# Altium integrated library ON Semi Transient Voltage Suppressors (TVS).IntLib: 730 symbols (part 11 of 17)
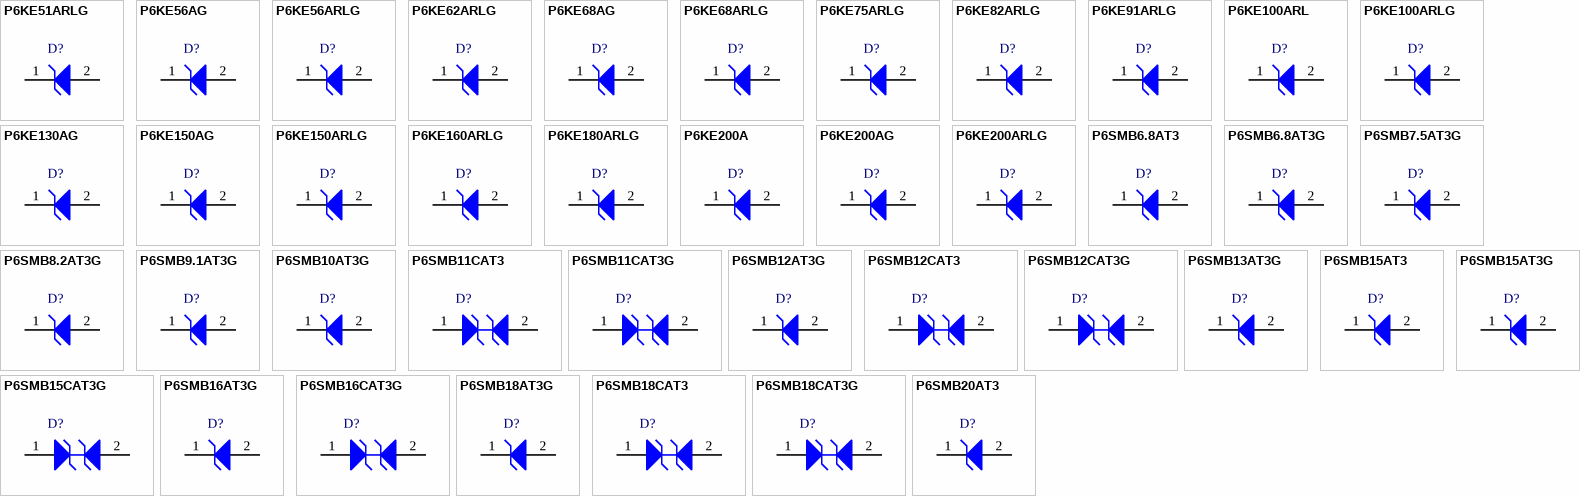
[diagram p28: symbols P6KE51ARLG to P6SMB20AT3]

## P6KE75ARLG
designator D?
600 W Peak Power Transient Voltage Suppressor, 2-Pin Surmetic(TM) 40, Pb-Free, Tape and Reel; Manufacturer: On Semiconductor; PartNumber: P6KE75ARLG; Direction: Unidirectional; IR Max (uA): 5; PPK Max (W): 600; V(BR) Typ (V): 75.05; DatasheetVersion: Rev. 10; PackageVersion: Rev. O, 09/2005; PackageReference: SURMETIC40-2-017AA-01; PackageDescription: 2-Pin, Axial Lead, Diameter 3.49 mm; Supplier 1: Digi-Key; Supplier Part Number 1: P6KE75ARLG-ND; Supplier 2: Mouser; Supplier Part Number 2: 863-P6KE75ARLG; Packing: Tape and Reel; RoHS: Pb-Free; Mounting Technology: Through Hole; ComponentLink1Description: Manufacturer URL; ComponentLink1URL: http://www.onsemi.com/; ComponentLink2Description: Datasheet; ComponentLink2URL: http://www.onsemi.com/pub_link/Collateral/P6KE6.8A-D.PDF; ComponentLink3Description: Package Specification; ComponentLink3URL: http://www.onsemi.cn/pub_link/Collateral/017AA.PDF
footprint ONSC-SURMETIC40-2-017AA-01 (AXIAL, 2-Leads, Diameter 3.49mm)
pins: 1 K, 2 A

## P6KE82ARLG
designator D?
600 W Peak Power Transient Voltage Suppressor, 2-Pin Surmetic(TM) 40, Pb-Free, Tape and Reel; Manufacturer: On Semiconductor; PartNumber: P6KE82ARLG; Direction: Unidirectional; IR Max (uA): 5; PPK Max (W): 600; V(BR) Typ (V): 82; DatasheetVersion: Rev. 10; PackageVersion: Rev. O, 09/2005; PackageReference: SURMETIC40-2-017AA-01; PackageDescription: 2-Pin, Axial Lead, Diameter 3.49 mm; Supplier 1: Digi-Key; Supplier Part Number 1: P6KE82ARLG-ND; Supplier 2: Newark; Supplier Part Number 2: 42K2543; Supplier 3: Mouser; Supplier Part Number 3: 863-P6KE82ARLG; Packing: Tape and Reel; RoHS: Pb-Free; Mounting Technology: Through Hole; ComponentLink1Description: Manufacturer URL; ComponentLink1URL: http://www.onsemi.com/; ComponentLink2Description: Datasheet; ComponentLink2URL: http://www.onsemi.com/pub_link/Collateral/P6KE6.8A-D.PDF; ComponentLink3Description: Package Specification; ComponentLink3URL: http://www.onsemi.cn/pub_link/Collateral/017AA.PDF
footprint ONSC-SURMETIC40-2-017AA-01 (AXIAL, 2-Leads, Diameter 3.49mm)
pins: 1 K, 2 A

## P6KE91ARLG
designator D?
600 W Peak Power Transient Voltage Suppressor, 2-Pin Surmetic(TM) 40, Pb-Free, Tape and Reel; Manufacturer: On Semiconductor; PartNumber: P6KE91ARLG; Direction: Unidirectional; IR Max (uA): 5; PPK Max (W): 600; V(BR) Typ (V): 91; DatasheetVersion: Rev. 10; PackageVersion: Rev. O, 09/2005; PackageReference: SURMETIC40-2-017AA-01; PackageDescription: 2-Pin, Axial Lead, Diameter 3.49 mm; Supplier 1: Digi-Key; Supplier Part Number 1: P6KE91ARLG-ND; Supplier 2: Mouser; Supplier Part Number 2: 863-P6KE91ARLG; Packing: Tape and Reel; RoHS: Pb-Free; Mounting Technology: Through Hole; ComponentLink1Description: Manufacturer URL; ComponentLink1URL: http://www.onsemi.com/; ComponentLink2Description: Datasheet; ComponentLink2URL: http://www.onsemi.com/pub_link/Collateral/P6KE6.8A-D.PDF; ComponentLink3Description: Package Specification; ComponentLink3URL: http://www.onsemi.cn/pub_link/Collateral/017AA.PDF
footprint ONSC-SURMETIC40-2-017AA-01 (AXIAL, 2-Leads, Diameter 3.49mm)
pins: 1 K, 2 A

## P6KE100ARL
designator D?
600 W Peak Power Transient Voltage Suppressor, 2-Pin Surmetic(TM) 40, Tape and Reel; Manufacturer: On Semiconductor; PartNumber: P6KE100ARL; Direction: Unidirectional; IR Max (uA): 5; PPK Max (W): 600; V(BR) Typ (V): 100; DatasheetVersion: Rev. 10; PackageVersion: Rev. O, 09/2005; PackageReference: SURMETIC40-2-017AA-01; PackageDescription: 2-Pin, Axial Lead, Diameter 3.49 mm; Supplier 1: Mouser; Supplier Part Number 1: 863-P6KE100ARL; Packing: Tape and Reel; Mounting Technology: Through Hole; ComponentLink1Description: Manufacturer URL; ComponentLink1URL: http://www.onsemi.com/; ComponentLink2Description: Datasheet; ComponentLink2URL: http://www.onsemi.com/pub_link/Collateral/P6KE6.8A-D.PDF; ComponentLink3Description: Package Specification; ComponentLink3URL: http://www.onsemi.cn/pub_link/Collateral/017AA.PDF
footprint ONSC-SURMETIC40-2-017AA-01 (AXIAL, 2-Leads, Diameter 3.49mm)
pins: 1 K, 2 A

## P6KE100ARLG
designator D?
600 W Peak Power Transient Voltage Suppressor, 2-Pin Surmetic(TM) 40, Pb-Free, Tape and Reel; Manufacturer: On Semiconductor; PartNumber: P6KE100ARLG; Direction: Unidirectional; IR Max (uA): 5; PPK Max (W): 600; V(BR) Typ (V): 100; DatasheetVersion: Rev. 10; PackageVersion: Rev. O, 09/2005; PackageReference: SURMETIC40-2-017AA-01; PackageDescription: 2-Pin, Axial Lead, Diameter 3.49 mm; Supplier 1: Digi-Key; Supplier Part Number 1: P6KE100ARLG-ND; Supplier 2: Mouser; Supplier Part Number 2: 863-P6KE100ARLG; Packing: Tape and Reel; RoHS: Pb-Free; Mounting Technology: Through Hole; ComponentLink1Description: Manufacturer URL; ComponentLink1URL: http://www.onsemi.com/; ComponentLink2Description: Datasheet; ComponentLink2URL: http://www.onsemi.com/pub_link/Collateral/P6KE6.8A-D.PDF; ComponentLink3Description: Package Specification; ComponentLink3URL: http://www.onsemi.cn/pub_link/Collateral/017AA.PDF
footprint ONSC-SURMETIC40-2-017AA-01 (AXIAL, 2-Leads, Diameter 3.49mm)
pins: 1 K, 2 A

## P6KE130AG
designator D?
600 W Peak Power Transient Voltage Suppressor, 2-Pin Surmetic(TM) 40, Pb-Free, Bulk Box; Manufacturer: On Semiconductor; PartNumber: P6KE130AG; Direction: Unidirectional; IR Max (uA): 5; PPK Max (W): 600; V(BR) Typ (V): 130.05; DatasheetVersion: Rev. 10; PackageVersion: Rev. O, 09/2005; PackageReference: SURMETIC40-2-017AA-01; PackageDescription: 2-Pin, Axial Lead, Diameter 3.49 mm; Supplier 1: Digi-Key; Supplier Part Number 1: P6KE130AGOS-ND; Supplier 2: Newark; Supplier Part Number 2: 42K2514; Supplier 3: Mouser; Supplier Part Number 3: 863-P6KE130AG; Packing: Bulk Box; RoHS: Pb-Free; Mounting Technology: Through Hole; ComponentLink1Description: Manufacturer URL; ComponentLink1URL: http://www.onsemi.com/; ComponentLink2Description: Datasheet; ComponentLink2URL: http://www.onsemi.com/pub_link/Collateral/P6KE6.8A-D.PDF; ComponentLink3Description: Package Specification; ComponentLink3URL: http://www.onsemi.cn/pub_link/Collateral/017AA.PDF
footprint ONSC-SURMETIC40-2-017AA-01 (AXIAL, 2-Leads, Diameter 3.49mm)
pins: 1 K, 2 A

## P6KE150AG
designator D?
600 W Peak Power Transient Voltage Suppressor, 2-Pin Surmetic(TM) 40, Pb-Free, Bulk Box; Manufacturer: On Semiconductor; PartNumber: P6KE150AG; Direction: Unidirectional; IR Max (uA): 5; PPK Max (W): 600; V(BR) Typ (V): 150.05; DatasheetVersion: Rev. 10; PackageVersion: Rev. O, 09/2005; PackageReference: SURMETIC40-2-017AA-01; PackageDescription: 2-Pin, Axial Lead, Diameter 3.49 mm; Supplier 1: Digi-Key; Supplier Part Number 1: P6KE150AG-ND; Supplier 2: Newark; Supplier Part Number 2: 42K2516; Supplier 3: Mouser; Supplier Part Number 3: 863-P6KE150AG; Packing: Bulk Box; RoHS: Pb-Free; Mounting Technology: Through Hole; ComponentLink1Description: Manufacturer URL; ComponentLink1URL: http://www.onsemi.com/; ComponentLink2Description: Datasheet; ComponentLink2URL: http://www.onsemi.com/pub_link/Collateral/P6KE6.8A-D.PDF; ComponentLink3Description: Package Specification; ComponentLink3URL: http://www.onsemi.cn/pub_link/Collateral/017AA.PDF
footprint ONSC-SURMETIC40-2-017AA-01 (AXIAL, 2-Leads, Diameter 3.49mm)
pins: 1 K, 2 A

## P6KE150ARLG
designator D?
600 W Peak Power Transient Voltage Suppressor, 2-Pin Surmetic(TM) 40, Pb-Free, Tape and Reel; Manufacturer: On Semiconductor; PartNumber: P6KE150ARLG; Direction: Unidirectional; IR Max (uA): 5; PPK Max (W): 600; V(BR) Typ (V): 150.05; DatasheetVersion: Rev. 10; PackageVersion: Rev. O, 09/2005; PackageReference: SURMETIC40-2-017AA-01; PackageDescription: 2-Pin, Axial Lead, Diameter 3.49 mm; Supplier 1: Digi-Key; Supplier Part Number 1: P6KE150ARLG-ND; Supplier 2: Mouser; Supplier Part Number 2: 863-P6KE150ARLG; Packing: Tape and Reel; RoHS: Pb-Free; Mounting Technology: Through Hole; ComponentLink1Description: Manufacturer URL; ComponentLink1URL: http://www.onsemi.com/; ComponentLink2Description: Datasheet; ComponentLink2URL: http://www.onsemi.com/pub_link/Collateral/P6KE6.8A-D.PDF; ComponentLink3Description: Package Specification; ComponentLink3URL: http://www.onsemi.cn/pub_link/Collateral/017AA.PDF
footprint ONSC-SURMETIC40-2-017AA-01 (AXIAL, 2-Leads, Diameter 3.49mm)
pins: 1 K, 2 A

## P6KE160ARLG
designator D?
600 W Peak Power Transient Voltage Suppressor, 2-Pin Surmetic(TM) 40, Pb-Free, Tape and Reel; Manufacturer: On Semiconductor; PartNumber: P6KE160ARLG; Direction: Unidirectional; IR Max (uA): 5; PPK Max (W): 600; V(BR) Typ (V): 160; DatasheetVersion: Rev. 10; PackageVersion: Rev. O, 09/2005; PackageReference: SURMETIC40-2-017AA-01; PackageDescription: 2-Pin, Axial Lead, Diameter 3.49 mm; Supplier 1: Digi-Key; Supplier Part Number 1: P6KE160ARLG-ND; Supplier 2: Newark; Supplier Part Number 2: 42K2518; Supplier 3: Mouser; Supplier Part Number 3: 863-P6KE160ARLG; Packing: Tape and Reel; RoHS: Pb-Free; Mounting Technology: Through Hole; ComponentLink1Description: Manufacturer URL; ComponentLink1URL: http://www.onsemi.com/; ComponentLink2Description: Datasheet; ComponentLink2URL: http://www.onsemi.com/pub_link/Collateral/P6KE6.8A-D.PDF; ComponentLink3Description: Package Specification; ComponentLink3URL: http://www.onsemi.cn/pub_link/Collateral/017AA.PDF
footprint ONSC-SURMETIC40-2-017AA-01 (AXIAL, 2-Leads, Diameter 3.49mm)
pins: 1 K, 2 A

## P6KE180ARLG
designator D?
600 W Peak Power Transient Voltage Suppressor, 2-Pin Surmetic(TM) 40, Pb-Free, Tape and Reel; Manufacturer: On Semiconductor; PartNumber: P6KE180ARLG; Direction: Unidirectional; IR Max (uA): 5; PPK Max (W): 600; V(BR) Typ (V): 180; DatasheetVersion: Rev. 10; PackageVersion: Rev. O, 09/2005; PackageReference: SURMETIC40-2-017AA-01; PackageDescription: 2-Pin, Axial Lead, Diameter 3.49 mm; Supplier 1: Digi-Key; Supplier Part Number 1: P6KE180ARLGOSTR-ND; Supplier 2: Digi-Key; Supplier Part Number 2: P6KE180ARLGOSCT-ND; Supplier 3: Newark; Supplier Part Number 3: 42K2521; Supplier 4: Mouser; Supplier Part Number 4: 863-P6KE180ARLG; Packing: Tape and Reel; RoHS: Pb-Free; Mounting Technology: Through Hole; ComponentLink1Description: Manufacturer URL; ComponentLink1URL: http://www.onsemi.com/; ComponentLink2Description: Datasheet; ComponentLink2URL: http://www.onsemi.com/pub_link/Collateral/P6KE6.8A-D.PDF; ComponentLink3Description: Package Specification; ComponentLink3URL: http://www.onsemi.cn/pub_link/Collateral/017AA.PDF
footprint ONSC-SURMETIC40-2-017AA-01 (AXIAL, 2-Leads, Diameter 3.49mm)
pins: 1 K, 2 A

## P6KE200A
designator D?
600 W Peak Power Transient Voltage Suppressor, 2-Pin Surmetic(TM) 40, Bulk Box; Manufacturer: On Semiconductor; PartNumber: P6KE200A; Direction: Unidirectional; IR Max (uA): 5; PPK Max (W): 600; V(BR) Typ (V): 200; DatasheetVersion: Rev. 10; PackageVersion: Rev. O, 09/2005; PackageReference: SURMETIC40-2-017AA-01; PackageDescription: 2-Pin, Axial Lead, Diameter 3.49 mm; Packing: Bulk Box; Mounting Technology: Through Hole; ComponentLink1Description: Manufacturer URL; ComponentLink1URL: http://www.onsemi.com/; ComponentLink2Description: Datasheet; ComponentLink2URL: http://www.onsemi.com/pub_link/Collateral/P6KE6.8A-D.PDF; ComponentLink3Description: Package Specification; ComponentLink3URL: http://www.onsemi.cn/pub_link/Collateral/017AA.PDF
footprint ONSC-SURMETIC40-2-017AA-01 (AXIAL, 2-Leads, Diameter 3.49mm)
pins: 1 K, 2 A

## P6KE200AG
designator D?
600 W Peak Power Transient Voltage Suppressor, 2-Pin Surmetic(TM) 40, Pb-Free, Bulk Box; Manufacturer: On Semiconductor; PartNumber: P6KE200AG; Direction: Unidirectional; IR Max (uA): 5; PPK Max (W): 600; V(BR) Typ (V): 200; DatasheetVersion: Rev. 10; PackageVersion: Rev. O, 09/2005; PackageReference: SURMETIC40-2-017AA-01; PackageDescription: 2-Pin, Axial Lead, Diameter 3.49 mm; Supplier 1: Digi-Key; Supplier Part Number 1: P6KE200AGOS-ND; Supplier 2: Farnell; Supplier Part Number 2: 1231727; Supplier 3: Newark; Supplier Part Number 3: 42K2523; Supplier 4: Mouser; Supplier Part Number 4: 863-P6KE200AG; Packing: Bulk Box; RoHS: Pb-Free; Mounting Technology: Through Hole; ComponentLink1Description: Manufacturer URL; ComponentLink1URL: http://www.onsemi.com/; ComponentLink2Description: Datasheet; ComponentLink2URL: http://www.onsemi.com/pub_link/Collateral/P6KE6.8A-D.PDF; ComponentLink3Description: Package Specification; ComponentLink3URL: http://www.onsemi.cn/pub_link/Collateral/017AA.PDF
footprint ONSC-SURMETIC40-2-017AA-01 (AXIAL, 2-Leads, Diameter 3.49mm)
pins: 1 K, 2 A

## P6KE200ARLG
designator D?
600 W Peak Power Transient Voltage Suppressor, 2-Pin Surmetic(TM) 40, Pb-Free, Tape and Reel; Manufacturer: On Semiconductor; PartNumber: P6KE200ARLG; Direction: Unidirectional; IR Max (uA): 5; PPK Max (W): 600; V(BR) Typ (V): 200; DatasheetVersion: Rev. 10; PackageVersion: Rev. O, 09/2005; PackageReference: SURMETIC40-2-017AA-01; PackageDescription: 2-Pin, Axial Lead, Diameter 3.49 mm; Supplier 1: Digi-Key; Supplier Part Number 1: P6KE200ARLGOSTR-ND; Supplier 2: Digi-Key; Supplier Part Number 2: P6KE200ARLGOSCT-ND; Supplier 3: Farnell; Supplier Part Number 3: 1887111; Supplier 4: Newark; Supplier Part Number 4: 09R9683; Supplier 5: Mouser; Supplier Part Number 5: 863-P6KE200ARLG; Packing: Tape and Reel; RoHS: Pb-Free; Mounting Technology: Through Hole; ComponentLink1Description: Manufacturer URL; ComponentLink1URL: http://www.onsemi.com/; ComponentLink2Description: Datasheet; ComponentLink2URL: http://www.onsemi.com/pub_link/Collateral/P6KE6.8A-D.PDF; ComponentLink3Description: Package Specification; ComponentLink3URL: http://www.onsemi.cn/pub_link/Collateral/017AA.PDF
footprint ONSC-SURMETIC40-2-017AA-01 (AXIAL, 2-Leads, Diameter 3.49mm)
pins: 1 K, 2 A

## P6SMB6.8AT3
designator D?
600 W Peak Power Zener Transient Voltage Suppressor, Unidirectional, 2-Pin SMB, Tape and Reel; Manufacturer: On Semiconductor; PartNumber: P6SMB6.8AT3; IR Max (uA): 1000; PPK Max (W): 600; V(BR) Typ (V): 6.8; DatasheetVersion: Rev. J; PackageVersion: Rev. J, 07/2012; PackageReference: SMB-2-403A-03_J; PackageDescription: 2-Pin Small Molded Package, J-Bend Lead, Body 4.33 x 3.625 mm; Supplier 1: Digi-Key; Supplier Part Number 1: P6SMB6.8AT3OSCT-ND; Supplier 2: Digi-Key; Supplier Part Number 2: P6SMB6.8AT3OSDKR-ND; Direction: Unidirectional; Packing: Tape and Reel; Mounting Technology: Surface Mount; ComponentLink1Description: Manufacturer URL; ComponentLink1URL: http://www.onsemi.com/; ComponentLink2Description: Datasheet; ComponentLink2URL: http://www.onsemi.com/pub_link/Collateral/P6SMB6.8AT3-D.PDF; ComponentLink3Description: Package Specification; ComponentLink3URL: http://www.onsemi.com/pub_link/Collateral/P6SMB6.8AT3-D.PDF
footprint ONSC-SMB-2-403A-03_J_V (Molded, 2-Leads, Body 4.6x3.95mm)
pins: 1 K, 2 A

## P6SMB6.8AT3G
designator D?
600 W Peak Power Zener Transient Voltage Suppressor, Unidirectional, 2-Pin SMB, Pb-Free, Tape and Reel; Manufacturer: On Semiconductor; PartNumber: P6SMB6.8AT3G; IR Max (uA): 1000; PPK Max (W): 600; V(BR) Typ (V): 6.8; DatasheetVersion: Rev. J; PackageVersion: Rev. J, 07/2012; PackageReference: SMB-2-403A-03_J; PackageDescription: 2-Pin Small Molded Package, J-Bend Lead, Body 4.33 x 3.625 mm; Supplier 1: Digi-Key; Supplier Part Number 1: P6SMB6.8AT3GOSTR-ND; Supplier 2: Digi-Key; Supplier Part Number 2: P6SMB6.8AT3GOSCT-ND; Supplier 3: Digi-Key; Supplier Part Number 3: P6SMB6.8AT3GOSDKR-ND; Supplier 4: Farnell; Supplier Part Number 4: 1459166; Supplier 5: Farnell; Supplier Part Number 5: 1459166RL; Supplier 6: Farnell; Supplier Part Number 6: 2370847; Supplier 7: Newark; Supplier Part Number 7: 45J2235; Supplier 8: Newark; Supplier Part Number 8: 67R1398; Supplier 9: Mouser; Supplier Part Number 9: 863-P6SMB6.8AT3G; Direction: Unidirectional; Packing: Tape and Reel; RoHS: Pb-Free; Mounting Technology: Surface Mount; ComponentLink1Description: Manufacturer URL; ComponentLink1URL: http://www.onsemi.com/; ComponentLink2Description: Datasheet; ComponentLink2URL: http://www.onsemi.com/pub_link/Collateral/P6SMB6.8AT3-D.PDF; ComponentLink3Description: Package Specification; ComponentLink3URL: http://www.onsemi.com/pub_link/Collateral/P6SMB6.8AT3-D.PDF
footprint ONSC-SMB-2-403A-03_J_V (Molded, 2-Leads, Body 4.6x3.95mm)
pins: 1 K, 2 A

## P6SMB7.5AT3G
designator D?
600 W Peak Power Zener Transient Voltage Suppressor, Unidirectional, 2-Pin SMB, Pb-Free, Tape and Reel; Manufacturer: On Semiconductor; PartNumber: P6SMB7.5AT3G; IR Max (uA): 500; PPK Max (W): 600; V(BR) Typ (V): 7.51; DatasheetVersion: Rev. J; PackageVersion: Rev. J, 07/2012; PackageReference: SMB-2-403A-03_J; PackageDescription: 2-Pin Small Molded Package, J-Bend Lead, Body 4.33 x 3.625 mm; Supplier 1: Digi-Key; Supplier Part Number 1: P6SMB7.5AT3GOSTR-ND; Supplier 2: Digi-Key; Supplier Part Number 2: P6SMB7.5AT3GOSCT-ND; Supplier 3: Digi-Key; Supplier Part Number 3: P6SMB7.5AT3GOSDKR-ND; Supplier 4: Newark; Supplier Part Number 4: 26K5170; Supplier 5: Mouser; Supplier Part Number 5: 863-P6SMB7.5AT3G; Direction: Unidirectional; Packing: Tape and Reel; RoHS: Pb-Free; Mounting Technology: Surface Mount; ComponentLink1Description: Manufacturer URL; ComponentLink1URL: http://www.onsemi.com/; ComponentLink2Description: Datasheet; ComponentLink2URL: http://www.onsemi.com/pub_link/Collateral/P6SMB6.8AT3-D.PDF; ComponentLink3Description: Package Specification; ComponentLink3URL: http://www.onsemi.com/pub_link/Collateral/P6SMB6.8AT3-D.PDF
footprint ONSC-SMB-2-403A-03_J_V (Molded, 2-Leads, Body 4.6x3.95mm)
pins: 1 K, 2 A

## P6SMB8.2AT3G
designator D?
600 W Peak Power Zener Transient Voltage Suppressor, Unidirectional, 2-Pin SMB, Pb-Free, Tape and Reel; Manufacturer: On Semiconductor; PartNumber: P6SMB8.2AT3G; IR Max (uA): 200; PPK Max (W): 600; V(BR) Typ (V): 8.2; DatasheetVersion: Rev. J; PackageVersion: Rev. J, 07/2012; PackageReference: SMB-2-403A-03_J; PackageDescription: 2-Pin Small Molded Package, J-Bend Lead, Body 4.33 x 3.625 mm; Supplier 1: Digi-Key; Supplier Part Number 1: P6SMB8.2AT3G-ND; Supplier 2: Newark; Supplier Part Number 2: 26K5171; Supplier 3: Mouser; Supplier Part Number 3: 863-P6SMB8.2AT3G; Direction: Unidirectional; Packing: Tape and Reel; RoHS: Pb-Free; Mounting Technology: Surface Mount; ComponentLink1Description: Manufacturer URL; ComponentLink1URL: http://www.onsemi.com/; ComponentLink2Description: Datasheet; ComponentLink2URL: http://www.onsemi.com/pub_link/Collateral/P6SMB6.8AT3-D.PDF; ComponentLink3Description: Package Specification; ComponentLink3URL: http://www.onsemi.com/pub_link/Collateral/P6SMB6.8AT3-D.PDF
footprint ONSC-SMB-2-403A-03_J_V (Molded, 2-Leads, Body 4.6x3.95mm)
pins: 1 K, 2 A

## P6SMB9.1AT3G
designator D?
600 W Peak Power Zener Transient Voltage Suppressor, Unidirectional, 2-Pin SMB, Pb-Free, Tape and Reel; Manufacturer: On Semiconductor; PartNumber: P6SMB9.1AT3G; IR Max (uA): 50; PPK Max (W): 600; V(BR) Typ (V): 9.1; DatasheetVersion: Rev. J; PackageVersion: Rev. J, 07/2012; PackageReference: SMB-2-403A-03_J; PackageDescription: 2-Pin Small Molded Package, J-Bend Lead, Body 4.33 x 3.625 mm; Supplier 1: Digi-Key; Supplier Part Number 1: P6SMB9.1AT3G-ND; Supplier 2: Mouser; Supplier Part Number 2: 863-P6SMB9.1AT3G; Direction: Unidirectional; Packing: Tape and Reel; RoHS: Pb-Free; Mounting Technology: Surface Mount; ComponentLink1Description: Manufacturer URL; ComponentLink1URL: http://www.onsemi.com/; ComponentLink2Description: Datasheet; ComponentLink2URL: http://www.onsemi.com/pub_link/Collateral/P6SMB6.8AT3-D.PDF; ComponentLink3Description: Package Specification; ComponentLink3URL: http://www.onsemi.com/pub_link/Collateral/P6SMB6.8AT3-D.PDF
footprint ONSC-SMB-2-403A-03_J_V (Molded, 2-Leads, Body 4.6x3.95mm)
pins: 1 K, 2 A

## P6SMB10AT3G
designator D?
600 W Peak Power Zener Transient Voltage Suppressor, Unidirectional, 2-Pin SMB, Pb-Free, Tape and Reel; Manufacturer: On Semiconductor; PartNumber: P6SMB10AT3G; IR Max (uA): 10; PPK Max (W): 600; DatasheetVersion: Rev. J; PackageVersion: Rev. J, 07/2012; PackageReference: SMB-2-403A-03_J; PackageDescription: 2-Pin Small Molded Package, J-Bend Lead, Body 4.33 x 3.625 mm; Supplier 1: Digi-Key; Supplier Part Number 1: P6SMB10AT3GOSTR-ND; Supplier 2: Digi-Key; Supplier Part Number 2: P6SMB10AT3GOSCT-ND; Supplier 3: Digi-Key; Supplier Part Number 3: P6SMB10AT3GOSDKR-ND; Supplier 4: Newark; Supplier Part Number 4: 26K5151; Supplier 5: Mouser; Supplier Part Number 5: 863-P6SMB10AT3G; Direction: Unidirectional; Packing: Tape and Reel; RoHS: Pb-Free; V(BR) Typ (V): 10; Mounting Technology: Surface Mount; ComponentLink1Description: Manufacturer URL; ComponentLink1URL: http://www.onsemi.com/; ComponentLink2Description: Datasheet; ComponentLink2URL: http://www.onsemi.com/pub_link/Collateral/P6SMB6.8AT3-D.PDF; ComponentLink3Description: Package Specification; ComponentLink3URL: http://www.onsemi.com/pub_link/Collateral/P6SMB6.8AT3-D.PDF
footprint ONSC-SMB-2-403A-03_J_V (Molded, 2-Leads, Body 4.6x3.95mm)
pins: 1 K, 2 A

## P6SMB11CAT3
designator D?
600 W Peak Power Zener Transient Voltage Suppressor, Bidirectional, 2-Pin SMB, Tape and Reel; Manufacturer: On Semiconductor; PartNumber: P6SMB11CAT3; IR Max (uA): 5; PPK Max (W): 600; V(BR) Typ (V): 11.05; DatasheetVersion: Rev. 12; PackageVersion: Rev. H, 05/2011; PackageReference: SMB-2-403A-03_H; PackageDescription: 2-Pin Small Molded Package, J-Bend Lead, Body 4.33 x 3.625 mm; Supplier 1: Digi-Key; Supplier Part Number 1: P6SMB11CAT3OSCT-ND; Supplier 2: Digi-Key; Supplier Part Number 2: P6SMB11CAT3OSDKR-ND; Direction: Bidirectional; Packing: Tape and Reel; Mounting Technology: Surface Mount; ComponentLink1Description: Manufacturer URL; ComponentLink1URL: http://www.onsemi.com/; ComponentLink2Description: Datasheet; ComponentLink2URL: http://www.onsemi.com/pub_link/Collateral/P6SMB11CAT3-D.PDF; ComponentLink3Description: Package Specification; ComponentLink3URL: http://www.onsemi.com/pub_link/Collateral/1SMB5913BT3-D.PDF
footprint ONSC-SMB-2-403A-03_H_V (Molded, 2-Leads, Body 4.6x3.95mm)
pins: 1 A1, 2 A2

## P6SMB11CAT3G
designator D?
600 W Peak Power Zener Transient Voltage Suppressor, Bidirectional, 2-Pin SMB, Pb-Free, Tape and Reel; Manufacturer: On Semiconductor; PartNumber: P6SMB11CAT3G; IR Max (uA): 5; PPK Max (W): 600; V(BR) Typ (V): 11.05; DatasheetVersion: Rev. 12; PackageVersion: Rev. H, 05/2011; PackageReference: SMB-2-403A-03_H; PackageDescription: 2-Pin Small Molded Package, J-Bend Lead, Body 4.33 x 3.625 mm; Supplier 1: Digi-Key; Supplier Part Number 1: P6SMB11CAT3GOSTR-ND; Supplier 2: Digi-Key; Supplier Part Number 2: P6SMB11CAT3GOSCT-ND; Supplier 3: Digi-Key; Supplier Part Number 3: P6SMB11CAT3GOSDKR-ND; Supplier 4: Farnell; Supplier Part Number 4: 1899528; Supplier 5: Newark; Supplier Part Number 5: 09R9691; Supplier 6: Mouser; Supplier Part Number 6: 863-P6SMB11CAT3G; Direction: Bidirectional; Packing: Tape and Reel; RoHS: Pb-Free; Mounting Technology: Surface Mount; ComponentLink1Description: Manufacturer URL; ComponentLink1URL: http://www.onsemi.com/; ComponentLink2Description: Datasheet; ComponentLink2URL: http://www.onsemi.com/pub_link/Collateral/P6SMB11CAT3-D.PDF; ComponentLink3Description: Package Specification; ComponentLink3URL: http://www.onsemi.com/pub_link/Collateral/1SMB5913BT3-D.PDF
footprint ONSC-SMB-2-403A-03_H_V (Molded, 2-Leads, Body 4.6x3.95mm)
pins: 1 A1, 2 A2

## P6SMB12AT3G
designator D?
600 W Peak Power Zener Transient Voltage Suppressor, Unidirectional, 2-Pin SMB, Pb-Free, Tape and Reel; Manufacturer: On Semiconductor; PartNumber: P6SMB12AT3G; IR Max (uA): 5; PPK Max (W): 600; V(BR) Typ (V): 12; DatasheetVersion: Rev. J; PackageVersion: Rev. J, 07/2012; PackageReference: SMB-2-403A-03_J; PackageDescription: 2-Pin Small Molded Package, J-Bend Lead, Body 4.33 x 3.625 mm; Supplier 1: Digi-Key; Supplier Part Number 1: P6SMB12AT3GOSTR-ND; Supplier 2: Digi-Key; Supplier Part Number 2: P6SMB12AT3GOSCT-ND; Supplier 3: Digi-Key; Supplier Part Number 3: P6SMB12AT3GOSDKR-ND; Supplier 4: Farnell; Supplier Part Number 4: 2317491; Supplier 5: Newark; Supplier Part Number 5: 09R9692; Supplier 6: Mouser; Supplier Part Number 6: 863-P6SMB12AT3G; Direction: Unidirectional; Packing: Tape and Reel; RoHS: Pb-Free; Mounting Technology: Surface Mount; ComponentLink1Description: Manufacturer URL; ComponentLink1URL: http://www.onsemi.com/; ComponentLink2Description: Datasheet; ComponentLink2URL: http://www.onsemi.com/pub_link/Collateral/P6SMB6.8AT3-D.PDF; ComponentLink3Description: Package Specification; ComponentLink3URL: http://www.onsemi.com/pub_link/Collateral/P6SMB6.8AT3-D.PDF
footprint ONSC-SMB-2-403A-03_J_V (Molded, 2-Leads, Body 4.6x3.95mm)
pins: 1 K, 2 A

## P6SMB12CAT3
designator D?
600 W Peak Power Zener Transient Voltage Suppressor, Bidirectional, 2-Pin SMB, Tape and Reel; Manufacturer: On Semiconductor; PartNumber: P6SMB12CAT3; IR Max (uA): 5; PPK Max (W): 600; V(BR) Typ (V): 12; DatasheetVersion: Rev. 12; PackageVersion: Rev. H, 05/2011; PackageReference: SMB-2-403A-03_H; PackageDescription: 2-Pin Small Molded Package, J-Bend Lead, Body 4.33 x 3.625 mm; Supplier 1: Digi-Key; Supplier Part Number 1: P6SMB12CAT3OSCT-ND; Supplier 2: Digi-Key; Supplier Part Number 2: P6SMB12CAT3OSDKR-ND; Direction: Bidirectional; Packing: Tape and Reel; Mounting Technology: Surface Mount; ComponentLink1Description: Manufacturer URL; ComponentLink1URL: http://www.onsemi.com/; ComponentLink2Description: Datasheet; ComponentLink2URL: http://www.onsemi.com/pub_link/Collateral/P6SMB11CAT3-D.PDF; ComponentLink3Description: Package Specification; ComponentLink3URL: http://www.onsemi.com/pub_link/Collateral/1SMB5913BT3-D.PDF
footprint ONSC-SMB-2-403A-03_H_V (Molded, 2-Leads, Body 4.6x3.95mm)
pins: 1 A1, 2 A2

## P6SMB12CAT3G
designator D?
600 W Peak Power Zener Transient Voltage Suppressor, Bidirectional, 2-Pin SMB, Pb-Free, Tape and Reel; Manufacturer: On Semiconductor; PartNumber: P6SMB12CAT3G; IR Max (uA): 5; PPK Max (W): 600; V(BR) Typ (V): 12; DatasheetVersion: Rev. 12; PackageVersion: Rev. H, 05/2011; PackageReference: SMB-2-403A-03_H; PackageDescription: 2-Pin Small Molded Package, J-Bend Lead, Body 4.33 x 3.625 mm; Supplier 1: Digi-Key; Supplier Part Number 1: P6SMB12CAT3GOSTR-ND; Supplier 2: Digi-Key; Supplier Part Number 2: P6SMB12CAT3GOSCT-ND; Supplier 3: Digi-Key; Supplier Part Number 3: P6SMB12CAT3GOSDKR-ND; Supplier 4: Farnell; Supplier Part Number 4: 1861226; Supplier 5: Newark; Supplier Part Number 5: 09R9693; Supplier 6: Newark; Supplier Part Number 6: 45J2220; Supplier 7: Mouser; Supplier Part Number 7: 863-P6SMB12CAT3G; Direction: Bidirectional; Packing: Tape and Reel; RoHS: Pb-Free; Mounting Technology: Surface Mount; ComponentLink1Description: Manufacturer URL; ComponentLink1URL: http://www.onsemi.com/; ComponentLink2Description: Datasheet; ComponentLink2URL: http://www.onsemi.com/pub_link/Collateral/P6SMB11CAT3-D.PDF; ComponentLink3Description: Package Specification; ComponentLink3URL: http://www.onsemi.com/pub_link/Collateral/1SMB5913BT3-D.PDF
footprint ONSC-SMB-2-403A-03_H_V (Molded, 2-Leads, Body 4.6x3.95mm)
pins: 1 A1, 2 A2

## P6SMB13AT3G
designator D?
600 W Peak Power Zener Transient Voltage Suppressor, Unidirectional, 2-Pin SMB, Pb-Free, Tape and Reel; Manufacturer: On Semiconductor; PartNumber: P6SMB13AT3G; IR Max (uA): 5; PPK Max (W): 600; V(BR) Typ (V): 13.05; DatasheetVersion: Rev. J; PackageVersion: Rev. J, 07/2012; PackageReference: SMB-2-403A-03_J; PackageDescription: 2-Pin Small Molded Package, J-Bend Lead, Body 4.33 x 3.625 mm; Supplier 1: Digi-Key; Supplier Part Number 1: P6SMB13AT3GOSTR-ND; Supplier 2: Digi-Key; Supplier Part Number 2: P6SMB13AT3GOSCT-ND; Supplier 3: Digi-Key; Supplier Part Number 3: P6SMB13AT3GOSDKR-ND; Supplier 4: Newark; Supplier Part Number 4: 71J7341; Supplier 5: Mouser; Supplier Part Number 5: 863-P6SMB13AT3G; Direction: Unidirectional; Packing: Tape and Reel; RoHS: Pb-Free; Mounting Technology: Surface Mount; ComponentLink1Description: Manufacturer URL; ComponentLink1URL: http://www.onsemi.com/; ComponentLink2Description: Datasheet; ComponentLink2URL: http://www.onsemi.com/pub_link/Collateral/P6SMB6.8AT3-D.PDF; ComponentLink3Description: Package Specification; ComponentLink3URL: http://www.onsemi.com/pub_link/Collateral/P6SMB6.8AT3-D.PDF
footprint ONSC-SMB-2-403A-03_J_V (Molded, 2-Leads, Body 4.6x3.95mm)
pins: 1 K, 2 A

## P6SMB15AT3
designator D?
600 W Peak Power Zener Transient Voltage Suppressor, Unidirectional, 2-Pin SMB, Tape and Reel; Manufacturer: On Semiconductor; PartNumber: P6SMB15AT3; IR Max (uA): 5; PPK Max (W): 600; V(BR) Typ (V): 15.05; DatasheetVersion: Rev. J; PackageVersion: Rev. J, 07/2012; PackageReference: SMB-2-403A-03_J; PackageDescription: 2-Pin Small Molded Package, J-Bend Lead, Body 4.33 x 3.625 mm; Supplier 1: Digi-Key; Supplier Part Number 1: P6SMB15AT3OSTR-ND; Supplier 2: Digi-Key; Supplier Part Number 2: P6SMB15AT3OSCT-ND; Supplier 3: Digi-Key; Supplier Part Number 3: P6SMB15AT3OSDKR-ND; Direction: Unidirectional; Packing: Tape and Reel; Mounting Technology: Surface Mount; ComponentLink1Description: Manufacturer URL; ComponentLink1URL: http://www.onsemi.com/; ComponentLink2Description: Datasheet; ComponentLink2URL: http://www.onsemi.com/pub_link/Collateral/P6SMB6.8AT3-D.PDF; ComponentLink3Description: Package Specification; ComponentLink3URL: http://www.onsemi.com/pub_link/Collateral/P6SMB6.8AT3-D.PDF
footprint ONSC-SMB-2-403A-03_J_V (Molded, 2-Leads, Body 4.6x3.95mm)
pins: 1 K, 2 A

## P6SMB15AT3G
designator D?
600 W Peak Power Zener Transient Voltage Suppressor, Unidirectional, 2-Pin SMB, Pb-Free, Tape and Reel; Manufacturer: On Semiconductor; PartNumber: P6SMB15AT3G; IR Max (uA): 5; PPK Max (W): 600; V(BR) Typ (V): 15.05; DatasheetVersion: Rev. J; PackageVersion: Rev. J, 07/2012; PackageReference: SMB-2-403A-03_J; PackageDescription: 2-Pin Small Molded Package, J-Bend Lead, Body 4.33 x 3.625 mm; Supplier 1: Digi-Key; Supplier Part Number 1: P6SMB15AT3GOSTR-ND; Supplier 2: Digi-Key; Supplier Part Number 2: P6SMB15AT3GOSCT-ND; Supplier 3: Digi-Key; Supplier Part Number 3: P6SMB15AT3GOSDKR-ND; Supplier 4: Farnell; Supplier Part Number 4: 1459162; Supplier 5: Farnell; Supplier Part Number 5: 1459162RL; Supplier 6: Newark; Supplier Part Number 6: 45J2221; Supplier 7: Newark; Supplier Part Number 7: 85W2866; Supplier 8: Mouser; Supplier Part Number 8: 863-P6SMB15AT3G; Direction: Unidirectional; Packing: Tape and Reel; RoHS: Pb-Free; Mounting Technology: Surface Mount; ComponentLink1Description: Manufacturer URL; ComponentLink1URL: http://www.onsemi.com/; ComponentLink2Description: Datasheet; ComponentLink2URL: http://www.onsemi.com/pub_link/Collateral/P6SMB6.8AT3-D.PDF; ComponentLink3Description: Package Specification; ComponentLink3URL: http://www.onsemi.com/pub_link/Collateral/P6SMB6.8AT3-D.PDF
footprint ONSC-SMB-2-403A-03_J_V (Molded, 2-Leads, Body 4.6x3.95mm)
pins: 1 K, 2 A

## P6SMB15CAT3G
designator D?
600 W Peak Power Zener Transient Voltage Suppressor, Bidirectional, 2-Pin SMB, Pb-Free, Tape and Reel; Manufacturer: On Semiconductor; PartNumber: P6SMB15CAT3G; IR Max (uA): 5; PPK Max (W): 600; V(BR) Typ (V): 15.05; DatasheetVersion: Rev. 12; PackageVersion: Rev. H, 05/2011; PackageReference: SMB-2-403A-03_H; PackageDescription: 2-Pin Small Molded Package, J-Bend Lead, Body 4.33 x 3.625 mm; Supplier 1: Digi-Key; Supplier Part Number 1: P6SMB15CAT3GOSTR-ND; Supplier 2: Digi-Key; Supplier Part Number 2: P6SMB15CAT3GOSCT-ND; Supplier 3: Digi-Key; Supplier Part Number 3: P6SMB15CAT3GOSDKR-ND; Supplier 4: Newark; Supplier Part Number 4: 71J7342; Supplier 5: Mouser; Supplier Part Number 5: 863-P6SMB15CAT3G; Direction: Bidirectional; Packing: Tape and Reel; RoHS: Pb-Free; Mounting Technology: Surface Mount; ComponentLink1Description: Manufacturer URL; ComponentLink1URL: http://www.onsemi.com/; ComponentLink2Description: Datasheet; ComponentLink2URL: http://www.onsemi.com/pub_link/Collateral/P6SMB11CAT3-D.PDF; ComponentLink3Description: Package Specification; ComponentLink3URL: http://www.onsemi.com/pub_link/Collateral/1SMB5913BT3-D.PDF
footprint ONSC-SMB-2-403A-03_H_V (Molded, 2-Leads, Body 4.6x3.95mm)
pins: 1 A1, 2 A2

## P6SMB16AT3G
designator D?
600 W Peak Power Zener Transient Voltage Suppressor, Unidirectional, 2-Pin SMB, Pb-Free, Tape and Reel; Manufacturer: On Semiconductor; PartNumber: P6SMB16AT3G; IR Max (uA): 5; PPK Max (W): 600; V(BR) Typ (V): 16; DatasheetVersion: Rev. J; PackageVersion: Rev. J, 07/2012; PackageReference: SMB-2-403A-03_J; PackageDescription: 2-Pin Small Molded Package, J-Bend Lead, Body 4.33 x 3.625 mm; Supplier 1: Digi-Key; Supplier Part Number 1: P6SMB16AT3GOSTR-ND; Supplier 2: Digi-Key; Supplier Part Number 2: P6SMB16AT3GOSCT-ND; Supplier 3: Digi-Key; Supplier Part Number 3: P6SMB16AT3GOSDKR-ND; Supplier 4: Newark; Supplier Part Number 4: 45J2223; Supplier 5: Mouser; Supplier Part Number 5: 863-P6SMB16AT3G; Direction: Unidirectional; Packing: Tape and Reel; RoHS: Pb-Free; Mounting Technology: Surface Mount; ComponentLink1Description: Manufacturer URL; ComponentLink1URL: http://www.onsemi.com/; ComponentLink2Description: Datasheet; ComponentLink2URL: http://www.onsemi.com/pub_link/Collateral/P6SMB6.8AT3-D.PDF; ComponentLink3Description: Package Specification; ComponentLink3URL: http://www.onsemi.com/pub_link/Collateral/P6SMB6.8AT3-D.PDF
footprint ONSC-SMB-2-403A-03_J_V (Molded, 2-Leads, Body 4.6x3.95mm)
pins: 1 K, 2 A

## P6SMB16CAT3G
designator D?
600 W Peak Power Zener Transient Voltage Suppressor, Bidirectional, 2-Pin SMB, Pb-Free, Tape and Reel; Manufacturer: On Semiconductor; PartNumber: P6SMB16CAT3G; IR Max (uA): 5; PPK Max (W): 600; V(BR) Typ (V): 16; DatasheetVersion: Rev. 12; PackageVersion: Rev. H, 05/2011; PackageReference: SMB-2-403A-03_H; PackageDescription: 2-Pin Small Molded Package, J-Bend Lead, Body 4.33 x 3.625 mm; Supplier 1: Digi-Key; Supplier Part Number 1: P6SMB16CAT3G-ND; Supplier 2: Newark; Supplier Part Number 2: 42K2548; Supplier 3: Mouser; Supplier Part Number 3: 863-P6SMB16CAT3G; Direction: Bidirectional; Packing: Tape and Reel; RoHS: Pb-Free; Mounting Technology: Surface Mount; ComponentLink1Description: Manufacturer URL; ComponentLink1URL: http://www.onsemi.com/; ComponentLink2Description: Datasheet; ComponentLink2URL: http://www.onsemi.com/pub_link/Collateral/P6SMB11CAT3-D.PDF; ComponentLink3Description: Package Specification; ComponentLink3URL: http://www.onsemi.com/pub_link/Collateral/1SMB5913BT3-D.PDF
footprint ONSC-SMB-2-403A-03_H_V (Molded, 2-Leads, Body 4.6x3.95mm)
pins: 1 A1, 2 A2

## P6SMB18AT3G
designator D?
600 W Peak Power Zener Transient Voltage Suppressor, Unidirectional, 2-Pin SMB, Pb-Free, Tape and Reel; Manufacturer: On Semiconductor; PartNumber: P6SMB18AT3G; IR Max (uA): 5; PPK Max (W): 600; V(BR) Typ (V): 18; DatasheetVersion: Rev. J; PackageVersion: Rev. J, 07/2012; PackageReference: SMB-2-403A-03_J; PackageDescription: 2-Pin Small Molded Package, J-Bend Lead, Body 4.33 x 3.625 mm; Supplier 1: Digi-Key; Supplier Part Number 1: P6SMB18AT3GOSTR-ND; Supplier 2: Digi-Key; Supplier Part Number 2: P6SMB18AT3GOSCT-ND; Supplier 3: Digi-Key; Supplier Part Number 3: P6SMB18AT3GOSDKR-ND; Supplier 4: Farnell; Supplier Part Number 4: 2317512; Supplier 5: Farnell; Supplier Part Number 5: 2317781; Supplier 6: Newark; Supplier Part Number 6: 26K5155; Supplier 7: Newark; Supplier Part Number 7: 10N9729; Supplier 8: Mouser; Supplier Part Number 8: 863-P6SMB18AT3G; Direction: Unidirectional; Packing: Tape and Reel; RoHS: Pb-Free; Mounting Technology: Surface Mount; ComponentLink1Description: Manufacturer URL; ComponentLink1URL: http://www.onsemi.com/; ComponentLink2Description: Datasheet; ComponentLink2URL: http://www.onsemi.com/pub_link/Collateral/P6SMB6.8AT3-D.PDF; ComponentLink3Description: Package Specification; ComponentLink3URL: http://www.onsemi.com/pub_link/Collateral/P6SMB6.8AT3-D.PDF
footprint ONSC-SMB-2-403A-03_J_V (Molded, 2-Leads, Body 4.6x3.95mm)
pins: 1 K, 2 A

## P6SMB18CAT3
designator D?
600 W Peak Power Zener Transient Voltage Suppressor, Bidirectional, 2-Pin SMB, Tape and Reel; Manufacturer: On Semiconductor; PartNumber: P6SMB18CAT3; IR Max (uA): 5; PPK Max (W): 600; V(BR) Typ (V): 18; DatasheetVersion: Rev. 12; PackageVersion: Rev. H, 05/2011; PackageReference: SMB-2-403A-03_H; PackageDescription: 2-Pin Small Molded Package, J-Bend Lead, Body 4.33 x 3.625 mm; Direction: Bidirectional; Packing: Tape and Reel; Mounting Technology: Surface Mount; ComponentLink1Description: Manufacturer URL; ComponentLink1URL: http://www.onsemi.com/; ComponentLink2Description: Datasheet; ComponentLink2URL: http://www.onsemi.com/pub_link/Collateral/P6SMB11CAT3-D.PDF; ComponentLink3Description: Package Specification; ComponentLink3URL: http://www.onsemi.com/pub_link/Collateral/1SMB5913BT3-D.PDF
footprint ONSC-SMB-2-403A-03_H_V (Molded, 2-Leads, Body 4.6x3.95mm)
pins: 1 A1, 2 A2

## P6SMB18CAT3G
designator D?
600 W Peak Power Zener Transient Voltage Suppressor, Bidirectional, 2-Pin SMB, Pb-Free, Tape and Reel; Manufacturer: On Semiconductor; PartNumber: P6SMB18CAT3G; IR Max (uA): 5; PPK Max (W): 600; V(BR) Typ (V): 18; DatasheetVersion: Rev. 12; PackageVersion: Rev. H, 05/2011; PackageReference: SMB-2-403A-03_H; PackageDescription: 2-Pin Small Molded Package, J-Bend Lead, Body 4.33 x 3.625 mm; Supplier 1: Digi-Key; Supplier Part Number 1: P6SMB18CAT3GOSTR-ND; Supplier 2: Digi-Key; Supplier Part Number 2: P6SMB18CAT3GOSCT-ND; Supplier 3: Digi-Key; Supplier Part Number 3: P6SMB18CAT3GOSDKR-ND; Supplier 4: Farnell; Supplier Part Number 4: 1459163RL; Supplier 5: Farnell; Supplier Part Number 5: 1459163; Supplier 6: Newark; Supplier Part Number 6: 59M1505; Supplier 7: Newark; Supplier Part Number 7: 42K2549; Supplier 8: Mouser; Supplier Part Number 8: 863-P6SMB18CAT3G; Direction: Bidirectional; Packing: Tape and Reel; RoHS: Pb-Free; Mounting Technology: Surface Mount; ComponentLink1Description: Manufacturer URL; ComponentLink1URL: http://www.onsemi.com/; ComponentLink2Description: Datasheet; ComponentLink2URL: http://www.onsemi.com/pub_link/Collateral/P6SMB11CAT3-D.PDF; ComponentLink3Description: Package Specification; ComponentLink3URL: http://www.onsemi.com/pub_link/Collateral/1SMB5913BT3-D.PDF
footprint ONSC-SMB-2-403A-03_H_V (Molded, 2-Leads, Body 4.6x3.95mm)
pins: 1 A1, 2 A2

## P6SMB20AT3
designator D?
600 W Peak Power Zener Transient Voltage Suppressor, Unidirectional, 2-Pin SMB, Tape and Reel; Manufacturer: On Semiconductor; PartNumber: P6SMB20AT3; IR Max (uA): 5; PPK Max (W): 600; V(BR) Typ (V): 20; DatasheetVersion: Rev. J; PackageVersion: Rev. J, 07/2012; PackageReference: SMB-2-403A-03_J; PackageDescription: 2-Pin Small Molded Package, J-Bend Lead, Body 4.33 x 3.625 mm; Supplier 1: Digi-Key; Supplier Part Number 1: P6SMB20AT3OSCT-ND; Supplier 2: Digi-Key; Supplier Part Number 2: P6SMB20AT3OSDKR-ND; Direction: Unidirectional; Packing: Tape and Reel; Mounting Technology: Surface Mount; ComponentLink1Description: Manufacturer URL; ComponentLink1URL: http://www.onsemi.com/; ComponentLink2Description: Datasheet; ComponentLink2URL: http://www.onsemi.com/pub_link/Collateral/P6SMB6.8AT3-D.PDF; ComponentLink3Description: Package Specification; ComponentLink3URL: http://www.onsemi.com/pub_link/Collateral/P6SMB6.8AT3-D.PDF
footprint ONSC-SMB-2-403A-03_J_V (Molded, 2-Leads, Body 4.6x3.95mm)
pins: 1 K, 2 A

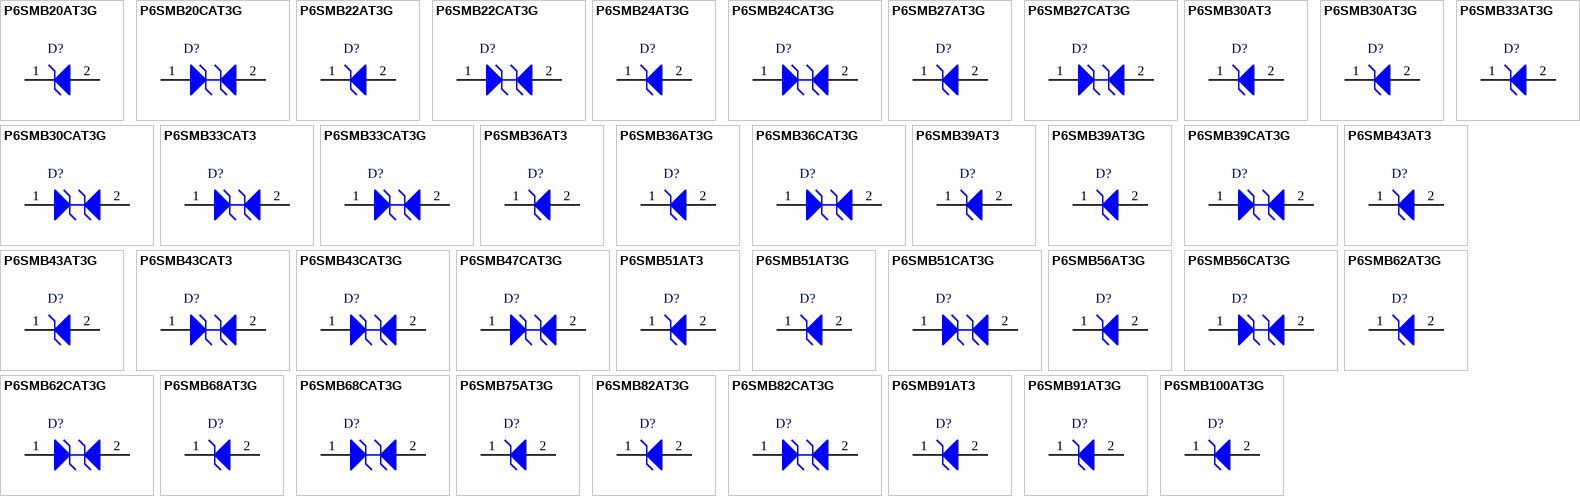
[diagram p12: symbols P6SMB20AT3G to P6SMB100AT3G]

## P6SMB20AT3G
designator D?
600 W Peak Power Zener Transient Voltage Suppressor, Unidirectional, 2-Pin SMB, Pb-Free, Tape and Reel; Manufacturer: On Semiconductor; PartNumber: P6SMB20AT3G; IR Max (uA): 5; PPK Max (W): 600; V(BR) Typ (V): 20; DatasheetVersion: Rev. J; PackageVersion: Rev. J, 07/2012; PackageReference: SMB-2-403A-03_J; PackageDescription: 2-Pin Small Molded Package, J-Bend Lead, Body 4.33 x 3.625 mm; Supplier 1: Digi-Key; Supplier Part Number 1: P6SMB20AT3GOSTR-ND; Supplier 2: Digi-Key; Supplier Part Number 2: P6SMB20AT3GOSCT-ND; Supplier 3: Digi-Key; Supplier Part Number 3: P6SMB20AT3GOSDKR-ND; Supplier 4: Farnell; Supplier Part Number 4: 1147832; Supplier 5: Newark; Supplier Part Number 5: 45J2225; Supplier 6: Mouser; Supplier Part Number 6: 863-P6SMB20AT3G; Direction: Unidirectional; Packing: Tape and Reel; RoHS: Pb-Free; Mounting Technology: Surface Mount; ComponentLink1Description: Manufacturer URL; ComponentLink1URL: http://www.onsemi.com/; ComponentLink2Description: Datasheet; ComponentLink2URL: http://www.onsemi.com/pub_link/Collateral/P6SMB6.8AT3-D.PDF; ComponentLink3Description: Package Specification; ComponentLink3URL: http://www.onsemi.com/pub_link/Collateral/P6SMB6.8AT3-D.PDF
footprint ONSC-SMB-2-403A-03_J_V (Molded, 2-Leads, Body 4.6x3.95mm)
pins: 1 K, 2 A

## P6SMB20CAT3G
designator D?
600 W Peak Power Zener Transient Voltage Suppressor, Bidirectional, 2-Pin SMB, Pb-Free, Tape and Reel; Manufacturer: On Semiconductor; PartNumber: P6SMB20CAT3G; IR Max (uA): 5; PPK Max (W): 600; V(BR) Typ (V): 20; DatasheetVersion: Rev. 12; PackageVersion: Rev. H, 05/2011; PackageReference: SMB-2-403A-03_H; PackageDescription: 2-Pin Small Molded Package, J-Bend Lead, Body 4.33 x 3.625 mm; Supplier 1: Digi-Key; Supplier Part Number 1: P6SMB20CAT3GOSTR-ND; Supplier 2: Digi-Key; Supplier Part Number 2: P6SMB20CAT3GOSCT-ND; Supplier 3: Digi-Key; Supplier Part Number 3: P6SMB20CAT3GOSDKR-ND; Supplier 4: Newark; Supplier Part Number 4: 10N9601; Supplier 5: Mouser; Supplier Part Number 5: 863-P6SMB20CAT3G; Direction: Bidirectional; Packing: Tape and Reel; RoHS: Pb-Free; Mounting Technology: Surface Mount; ComponentLink1Description: Manufacturer URL; ComponentLink1URL: http://www.onsemi.com/; ComponentLink2Description: Datasheet; ComponentLink2URL: http://www.onsemi.com/pub_link/Collateral/P6SMB11CAT3-D.PDF; ComponentLink3Description: Package Specification; ComponentLink3URL: http://www.onsemi.com/pub_link/Collateral/1SMB5913BT3-D.PDF
footprint ONSC-SMB-2-403A-03_H_V (Molded, 2-Leads, Body 4.6x3.95mm)
pins: 1 A1, 2 A2

## P6SMB22AT3G
designator D?
600 W Peak Power Zener Transient Voltage Suppressor, Unidirectional, 2-Pin SMB, Pb-Free, Tape and Reel; Manufacturer: On Semiconductor; PartNumber: P6SMB22AT3G; IR Max (uA): 5; PPK Max (W): 600; V(BR) Typ (V): 22; DatasheetVersion: Rev. J; PackageVersion: Rev. J, 07/2012; PackageReference: SMB-2-403A-03_J; PackageDescription: 2-Pin Small Molded Package, J-Bend Lead, Body 4.33 x 3.625 mm; Supplier 1: Digi-Key; Supplier Part Number 1: P6SMB22AT3GOSTR-ND; Supplier 2: Digi-Key; Supplier Part Number 2: P6SMB22AT3GOSCT-ND; Supplier 3: Digi-Key; Supplier Part Number 3: P6SMB22AT3GOSDKR-ND; Supplier 4: Farnell; Supplier Part Number 4: 1891196; Supplier 5: Newark; Supplier Part Number 5: 09R9697; Supplier 6: Mouser; Supplier Part Number 6: 863-P6SMB22AT3G; Direction: Unidirectional; Packing: Tape and Reel; RoHS: Pb-Free; Mounting Technology: Surface Mount; ComponentLink1Description: Manufacturer URL; ComponentLink1URL: http://www.onsemi.com/; ComponentLink2Description: Datasheet; ComponentLink2URL: http://www.onsemi.com/pub_link/Collateral/P6SMB6.8AT3-D.PDF; ComponentLink3Description: Package Specification; ComponentLink3URL: http://www.onsemi.com/pub_link/Collateral/P6SMB6.8AT3-D.PDF
footprint ONSC-SMB-2-403A-03_J_V (Molded, 2-Leads, Body 4.6x3.95mm)
pins: 1 K, 2 A

## P6SMB22CAT3G
designator D?
600 W Peak Power Zener Transient Voltage Suppressor, Bidirectional, 2-Pin SMB, Pb-Free, Tape and Reel; Manufacturer: On Semiconductor; PartNumber: P6SMB22CAT3G; IR Max (uA): 5; PPK Max (W): 600; V(BR) Typ (V): 22; DatasheetVersion: Rev. 12; PackageVersion: Rev. H, 05/2011; PackageReference: SMB-2-403A-03_H; PackageDescription: 2-Pin Small Molded Package, J-Bend Lead, Body 4.33 x 3.625 mm; Supplier 1: Digi-Key; Supplier Part Number 1: P6SMB22CAT3G-ND; Supplier 2: Newark; Supplier Part Number 2: 26K5159; Supplier 3: Mouser; Supplier Part Number 3: 863-P6SMB22CAT3G; Direction: Bidirectional; Packing: Tape and Reel; RoHS: Pb-Free; Mounting Technology: Surface Mount; ComponentLink1Description: Manufacturer URL; ComponentLink1URL: http://www.onsemi.com/; ComponentLink2Description: Datasheet; ComponentLink2URL: http://www.onsemi.com/pub_link/Collateral/P6SMB11CAT3-D.PDF; ComponentLink3Description: Package Specification; ComponentLink3URL: http://www.onsemi.com/pub_link/Collateral/1SMB5913BT3-D.PDF
footprint ONSC-SMB-2-403A-03_H_V (Molded, 2-Leads, Body 4.6x3.95mm)
pins: 1 A1, 2 A2

## P6SMB24AT3G
designator D?
600 W Peak Power Zener Transient Voltage Suppressor, Unidirectional, 2-Pin SMB, Pb-Free, Tape and Reel; Manufacturer: On Semiconductor; PartNumber: P6SMB24AT3G; IR Max (uA): 5; PPK Max (W): 600; V(BR) Typ (V): 24; DatasheetVersion: Rev. J; PackageVersion: Rev. J, 07/2012; PackageReference: SMB-2-403A-03_J; PackageDescription: 2-Pin Small Molded Package, J-Bend Lead, Body 4.33 x 3.625 mm; Supplier 1: Digi-Key; Supplier Part Number 1: P6SMB24AT3GOSTR-ND; Supplier 2: Digi-Key; Supplier Part Number 2: P6SMB24AT3GOSCT-ND; Supplier 3: Digi-Key; Supplier Part Number 3: P6SMB24AT3GOSDKR-ND; Supplier 4: Newark; Supplier Part Number 4: 26K5160; Supplier 5: Mouser; Supplier Part Number 5: 863-P6SMB24AT3G; Direction: Unidirectional; Packing: Tape and Reel; RoHS: Pb-Free; Mounting Technology: Surface Mount; ComponentLink1Description: Manufacturer URL; ComponentLink1URL: http://www.onsemi.com/; ComponentLink2Description: Datasheet; ComponentLink2URL: http://www.onsemi.com/pub_link/Collateral/P6SMB6.8AT3-D.PDF; ComponentLink3Description: Package Specification; ComponentLink3URL: http://www.onsemi.com/pub_link/Collateral/P6SMB6.8AT3-D.PDF
footprint ONSC-SMB-2-403A-03_J_V (Molded, 2-Leads, Body 4.6x3.95mm)
pins: 1 K, 2 A

## P6SMB24CAT3G
designator D?
600 W Peak Power Zener Transient Voltage Suppressor, Bidirectional, 2-Pin SMB, Pb-Free, Tape and Reel; Manufacturer: On Semiconductor; PartNumber: P6SMB24CAT3G; IR Max (uA): 5; PPK Max (W): 600; V(BR) Typ (V): 24; DatasheetVersion: Rev. 12; PackageVersion: Rev. H, 05/2011; PackageReference: SMB-2-403A-03_H; PackageDescription: 2-Pin Small Molded Package, J-Bend Lead, Body 4.33 x 3.625 mm; Supplier 1: Digi-Key; Supplier Part Number 1: P6SMB24CAT3GOSTR-ND; Supplier 2: Digi-Key; Supplier Part Number 2: P6SMB24CAT3GOSCT-ND; Supplier 3: Digi-Key; Supplier Part Number 3: P6SMB24CAT3GOSDKR-ND; Supplier 4: Farnell; Supplier Part Number 4: 2317505; Supplier 5: Newark; Supplier Part Number 5: 09R9699; Supplier 6: Newark; Supplier Part Number 6: 45J2227; Supplier 7: Mouser; Supplier Part Number 7: 863-P6SMB24CAT3G; Direction: Bidirectional; Packing: Tape and Reel; RoHS: Pb-Free; Mounting Technology: Surface Mount; ComponentLink1Description: Manufacturer URL; ComponentLink1URL: http://www.onsemi.com/; ComponentLink2Description: Datasheet; ComponentLink2URL: http://www.onsemi.com/pub_link/Collateral/P6SMB11CAT3-D.PDF; ComponentLink3Description: Package Specification; ComponentLink3URL: http://www.onsemi.com/pub_link/Collateral/1SMB5913BT3-D.PDF
footprint ONSC-SMB-2-403A-03_H_V (Molded, 2-Leads, Body 4.6x3.95mm)
pins: 1 A1, 2 A2

## P6SMB27AT3G
designator D?
600 W Peak Power Zener Transient Voltage Suppressor, Unidirectional, 2-Pin SMB, Pb-Free, Tape and Reel; Manufacturer: On Semiconductor; PartNumber: P6SMB27AT3G; IR Max (uA): 5; PPK Max (W): 600; V(BR) Typ (V): 27.05; DatasheetVersion: Rev. J; PackageVersion: Rev. J, 07/2012; PackageReference: SMB-2-403A-03_J; PackageDescription: 2-Pin Small Molded Package, J-Bend Lead, Body 4.33 x 3.625 mm; Supplier 1: Digi-Key; Supplier Part Number 1: P6SMB27AT3GOSTR-ND; Supplier 2: Digi-Key; Supplier Part Number 2: P6SMB27AT3GOSCT-ND; Supplier 3: Digi-Key; Supplier Part Number 3: P6SMB27AT3GOSDKR-ND; Supplier 4: Farnell; Supplier Part Number 4: 1611366; Supplier 5: Farnell; Supplier Part Number 5: 1611366RL; Supplier 6: Newark; Supplier Part Number 6: 71J7343; Supplier 7: Mouser; Supplier Part Number 7: 863-P6SMB27AT3G; Direction: Unidirectional; Packing: Tape and Reel; RoHS: Pb-Free; Mounting Technology: Surface Mount; ComponentLink1Description: Manufacturer URL; ComponentLink1URL: http://www.onsemi.com/; ComponentLink2Description: Datasheet; ComponentLink2URL: http://www.onsemi.com/pub_link/Collateral/P6SMB6.8AT3-D.PDF; ComponentLink3Description: Package Specification; ComponentLink3URL: http://www.onsemi.com/pub_link/Collateral/P6SMB6.8AT3-D.PDF
footprint ONSC-SMB-2-403A-03_J_V (Molded, 2-Leads, Body 4.6x3.95mm)
pins: 1 K, 2 A

## P6SMB27CAT3G
designator D?
600 W Peak Power Zener Transient Voltage Suppressor, Bidirectional, 2-Pin SMB, Pb-Free, Tape and Reel; Manufacturer: On Semiconductor; PartNumber: P6SMB27CAT3G; IR Max (uA): 5; PPK Max (W): 600; V(BR) Typ (V): 27.05; DatasheetVersion: Rev. 12; PackageVersion: Rev. H, 05/2011; PackageReference: SMB-2-403A-03_H; PackageDescription: 2-Pin Small Molded Package, J-Bend Lead, Body 4.33 x 3.625 mm; Supplier 1: Digi-Key; Supplier Part Number 1: P6SMB27CAT3G-ND; Supplier 2: Newark; Supplier Part Number 2: 42K2550; Supplier 3: Mouser; Supplier Part Number 3: 863-P6SMB27CAT3G; Direction: Bidirectional; Packing: Tape and Reel; RoHS: Pb-Free; Mounting Technology: Surface Mount; ComponentLink1Description: Manufacturer URL; ComponentLink1URL: http://www.onsemi.com/; ComponentLink2Description: Datasheet; ComponentLink2URL: http://www.onsemi.com/pub_link/Collateral/P6SMB11CAT3-D.PDF; ComponentLink3Description: Package Specification; ComponentLink3URL: http://www.onsemi.com/pub_link/Collateral/1SMB5913BT3-D.PDF
footprint ONSC-SMB-2-403A-03_H_V (Molded, 2-Leads, Body 4.6x3.95mm)
pins: 1 A1, 2 A2